# EAGLE library part CY7C65211 (library Interface)
CY7C65211 edit this description Auto generated by make-symbol-device-package-bsdl.ulp Rev. 44 Source: CY7C65211.txt
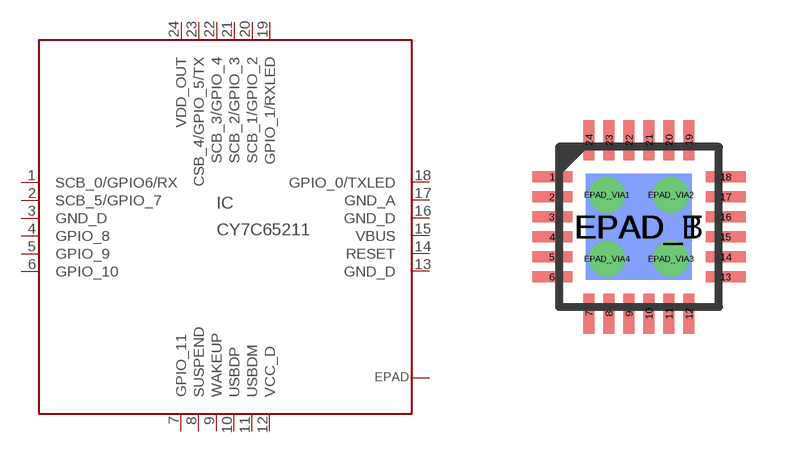
[diagram p3: symbol with the pads of QFN24; footprint QFN24]

Designator prefix IC

## CY7C65211  [QFN24]
1  SCB_0/GPIO6/RX
2  SCB_5/GPIO_7
3  GND_D  pwr
4  GPIO_8
5  GPIO_9
6  GPIO_10
7  GPIO_11
8  SUSPEND  out
9  WAKEUP  in
10  USBDP
11  USBDM
12  VCC_D  pwr
13  GND_D  pwr
14  RESET
15  VBUS  pwr
16  GND_D  pwr
17  GND_A  pwr
18  GPIO_0/TXLED
19  GPIO_1/RXLED
20  SCB_1/GPIO_2
21  SCB_2/GPIO_3
22  SCB_3/GPIO_4
23  CSB_4/GPIO_5/TX
24  VDD_OUT  pwr
EPAD_B  EPAD
EPAD_T  EPAD
EPAD_VIA1  EPAD
EPAD_VIA2  EPAD
EPAD_VIA3  EPAD
EPAD_VIA4  EPAD

## Footprint QFN24 (pad centres in mm)
QFN24 Auto generated by make-symbol-device-package-bsdl.ulp Rev. 44
smd 1 x 0.27: 1 -2.17,1.25; 2 -2.17,0.75; 3 -2.17,0.25; 4 -2.17,-0.25; 5 -2.17,-0.75; 6 -2.17,-1.25; 13 2.17,-1.25; 14 2.17,-0.75; 15 2.17,-0.25; 16 2.17,0.25; 17 2.17,0.75; 18 2.17,1.25
smd 0.27 x 1: 7 -1.25,-2.17; 8 -0.75,-2.17; 9 -0.25,-2.17; 10 0.25,-2.17; 11 0.75,-2.17; 12 1.25,-2.17; 19 1.25,2.17; 20 0.75,2.17; 21 0.25,2.17; 22 -0.25,2.17; 23 -0.75,2.17; 24 -1.25,2.17
smd 2.65 x 2.65 bottom: EPAD_B 0,0
smd 2.65 x 2.65: EPAD_T 0,0
drill 0.4: EPAD_VIA1 -0.8,0.8; EPAD_VIA2 0.8,0.8; EPAD_VIA3 0.8,-0.8; EPAD_VIA4 -0.8,-0.8